# Altium integrated library TerminalBlocksRisingCage_5.08mm.IntLib: 52 symbols
Pins are listed as number, name and electrical type; pins without a type are passive.

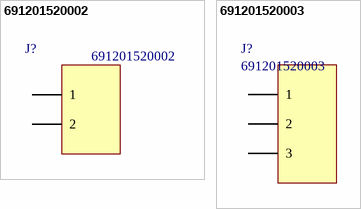
[diagram p0: symbols 691201520002 to 691201520003]

## 691201520002
designator J?
45¡ã Cable Entry with Rising Cage Clamp, Serie 2015 - 5.08 mm; Manufacturer: Wurth Elektronik; ComponentLink1 Description: Manufacturer; ComponentLink2 Description: Datasheet; NoPins: 2; ComponentLink1 URL: http://www.we-online.com; ComponentLink2 URL: http://katalog.we-online.de/em/datasheet/6912015200xx.pdf; Created By: Baojun Chen; Created Date: 6-Aug-15; PartNo: 691201520002; Value: 691201520002
footprint 691201520002 (Serie 2015 - 5.08 mm _ 2 pins)
pins: 1, 2

## 691201520003
designator J?
45¡ã Cable Entry with Rising Cage Clamp, Serie 2015 - 5.08 mm; Manufacturer: Wurth Elektronik; ComponentLink1 Description: Manufacturer; ComponentLink2 Description: Datasheet; NoPins: 3; ComponentLink1 URL: http://www.we-online.com; ComponentLink2 URL: http://katalog.we-online.de/em/datasheet/6912015200xx.pdf; Created By: Baojun Chen; Created Date: 6-Aug-15; PartNo: 691201520003; Value: 691201520003
footprint 691201520003 (Serie 2015 - 5.08 mm _ 3 pins)
pins: 1, 2, 3


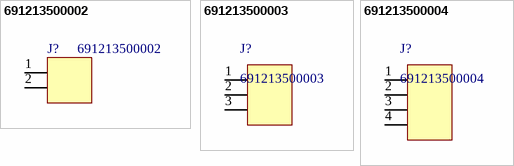
[diagram p1: symbols 691213500002 to 691213500004]

## 691213500002
designator J?
WR-TBL Vertical Cable Entry With Rising Cage Clamp,Serie 2135 - 5.08 mm; Manufacturer: Wurth Elektronik; ComponentLink1 Description: Manufacturer; ComponentLink2 Description: Datasheet; ComponentLink1URL: http://www.we-online.de; ComponentLink2URL: http://katalog.we-online.de/em/datasheet/6912135000XX.pdf; Created by: Baojun Chen; Created Date: 8.Sep.2015; partNo: 691213500002; Value: 691213500002
footprint 691213500002 (Serie 2135 - 5.08 mm _ 2 pins)
pins: 1, 2

## 691213500003
designator J?
WR-TBL Vertical Cable Entry With Rising Cage Clamp,Serie 2135 - 5.08 mm; Manufacturer: Wurth Elektronik; ComponentLink1 Description: Manufacturer; ComponentLink2 Description: Datasheet; ComponentLink1URL: http://www.we-online.de; ComponentLink2URL: http://katalog.we-online.de/em/datasheet/6912135000XX.pdf; Created by: Baojun Chen; Created Date: 8.Sep.2015; partNo: 691213500003; Value: 691213500003
footprint 691213500003 (Serie 2135 - 5.08 mm_ 3 pins)
pins: 1, 2, 3

## 691213500004
designator J?
WR-TBL Vertical Cable Entry With Rising Cage Clamp,Serie 2135 - 5.08 mm; Manufacturer: Wurth Elektronik; ComponentLink1 Description: Manufacturer; ComponentLink2 Description: Datasheet; ComponentLink1URL: http://www.we-online.de; ComponentLink2URL: http://katalog.we-online.de/em/datasheet/6912135000XX.pdf; Created by: Baojun Chen; Created Date: 8.Sep.2015; partNo: 691213500004; Value: 691213500004
footprint 691213500004 (Serie 2135 - 5.08 mm_ 4 pins)
pins: 1, 2, 3, 4


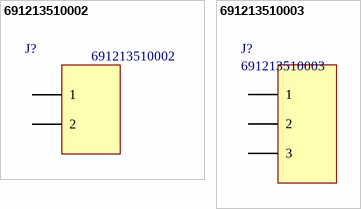
[diagram p2: symbols 691213510002 to 691213510003]

## 691213510002
designator J?
Horizontal Cable Entry with Rising Cage Clamp, Serie 2135 - 5.08 mm; Manufacturer: Wurth Elektronik; ComponentLink1 Description: Manufacturer; ComponentLink2 Description: Datasheet; NoPins: 2; ComponentLink1 URL: http://www.we-online.com; ComponentLink2 URL: http://katalog.we-online.de/em/datasheet/6912135100xx.pdf; Created By: Baojun Chen; Created Date: 6-Aug-15; PartNo: 691213510002; Value: 691213510002
footprint 691213510002 (Serie 2135 - 5.08 mm _ 2 pins)
pins: 1, 2

## 691213510003
designator J?
Horizontal Cable Entry with Rising Cage Clamp, Serie 2135 - 5.08 mm; Manufacturer: Wurth Elektronik; ComponentLink1 Description: Manufacturer; ComponentLink2 Description: Datasheet; NoPins: 3; ComponentLink1 URL: http://www.we-online.com; ComponentLink2 URL: http://katalog.we-online.de/em/datasheet/6912135100xx.pdf; Created By: Baojun Chen; Created Date: 6-Aug-15; PartNo: 691213510003; Value: 691213510003
footprint 691213510003 (Serie 2135 - 5.08 mm _ 3 pins)
pins: 1, 2, 3


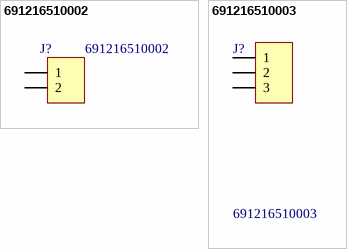
[diagram p3: symbols 691216510002 to 691216510003]

## 691216510002
designator J?
WR-TBL Horizontal Entry Modular with Rising Cage Clamp,Serie 2165 - 5.08 mm; Manufacturer: Würth Elektronik eiSos GmbH; ComponentLink1 Description: Manufacturer; ComponentLink2 Description: Datasheet; NoPins: 2; Created Date: 27 Novenber 2013; partNo: 691216510002; ComponentLink1URL: http://www.we-online.com; ComponentLink2URL: http://katalog.we-online.de/em/datasheet/6912165100xx.pdf; Created by: Karrer Zheng; Value: 691216510002
footprint 691216510002 (5,08mm - Modular - Horizontal wire entry - Rising cage clamp - 02p)
pins: 1, 2

## 691216510003
designator J?
WR-TBL Horizontal Entry Modular with Rising Cage Clamp,Serie 2165 - 5.08 mm; Manufacturer: Würth Elektronik eiSos GmbH; ComponentLink1 Description: Manufacturer; ComponentLink2 Description: Datasheet; NoPins: 3; Created Date: 27 Novenber 2013; partNo: 691216510003; ComponentLink1URL: http://www.we-online.com; ComponentLink2URL: http://katalog.we-online.de/em/datasheet/6912165100xx.pdf; Created by: Karrer Zheng; Value: 691216510003
footprint 691216510003 (5,08mm - Modular - Horizontal wire entry - Rising cage clamp - 03p)
pins: 1, 2, 3


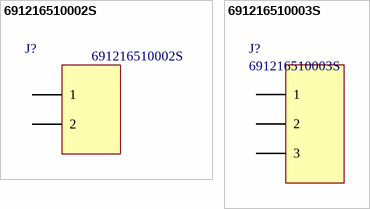
[diagram p4: symbols 691216510002S to 691216510003S]

## 691216510002S
designator J?
Horizontal Cable Entry with Rising Cage Clamp, Serie 2165S - 5.08 mm; Manufacturer: Wurth Elektronik; ComponentLink1 Description: Manufacturer; ComponentLink2 Description: Datasheet; NoPins: 2; ComponentLink1 URL: http://www.we-online.com; ComponentLink2 URL: http://katalog.we-online.de/em/datasheet/6912165100xxS.pdf; Created By: Baojun Chen; Created Date: 6-Aug-15; PartNo: 691216510002S; Value: 691216510002S
footprint 691216510002S (Serie 2165S - 5.08 mm _ 2 pins)
pins: 1, 2

## 691216510003S
designator J?
Horizontal Cable Entry with Rising Cage Clamp, Serie 2165S - 5.08 mm; Manufacturer: Wurth Elektronik; ComponentLink1 Description: Manufacturer; ComponentLink2 Description: Datasheet; NoPins: 3; ComponentLink1 URL: http://www.we-online.com; ComponentLink2 URL: http://katalog.we-online.de/em/datasheet/6912165100xxS.pdf; Created By: Baojun Chen; Created Date: 6-Aug-15; PartNo: 691216510003S; Value: 691216510003S
footprint 691216510003S (Serie 2165S - 5.08 mm _ 3 pins)
pins: 1, 2, 3


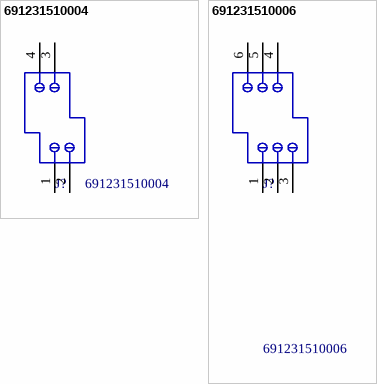
[diagram p5: symbols 691231510004 to 691231510006]

## 691231510004
designator J?
WR-TBL Double Level Horizontal Entry Modular with Rising Cage,Serie 2315 - 5.08 mm; Manufacturer: Würth Elektronik eiSos GmbH; ComponentLink1 Description: Manufacturer; ComponentLink2 Description: Datasheet; NoPins: 4; Created Date: 27 Novenber 2013; partNo: 691231510004; ComponentLink1URL: http://www.we-online.com; ComponentLink2URL: http://katalog.we-online.de/em/datasheet/6912315100xx.pdf; Created by: Karrer Zheng; Value: 691231510004
footprint 691231510004 (5,08mm - modular - 2 rows - Right - horizontal entry with rising cage clamp - 04p - h=19,1mm)
pins: 1, 2, 3, 4

## 691231510006
designator J?
WR-TBL Double Level Horizontal Entry Modular with Rising Cage,Serie 2315 - 5.08 mm; Manufacturer: Würth Elektronik eiSos GmbH; ComponentLink1 Description: Manufacturer; ComponentLink2 Description: Datasheet; NoPins: 6; Created Date: 27 Novenber 2013; partNo: 691231510006; ComponentLink1URL: http://www.we-online.com; ComponentLink2URL: http://katalog.we-online.de/em/datasheet/6912315100xx.pdf; Created by: Karrer Zheng; Value: 691231510006
footprint 691231510006 (5,08mm - modular - 2 rows - Right - horizontal entry with rising cage clamp - 06p - h=19,1mm)
pins: 1, 2, 3, 4, 5, 6


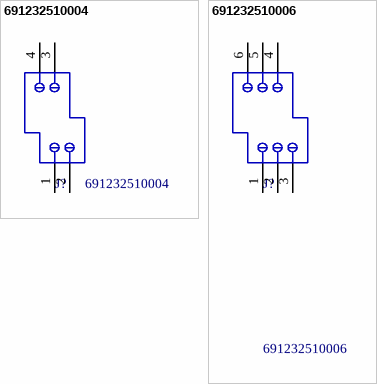
[diagram p6: symbols 691232510004 to 691232510006]

## 691232510004
designator J?
WR-TBL Double Level Horizontal Entry Modular with Rising Clamp,Serie 2325 - 5.08 mm; Manufacturer: Würth Elektronik eiSos GmbH; ComponentLink1 Description: Manufacturer; ComponentLink2 Description: Datasheet; NoPins: 4; Created Date: 28 Novenber 2013; partNo: 691232510004; ComponentLink1URL: http://www.we-online.com; ComponentLink2URL: http://katalog.we-online.de/em/datasheet/6912325100xx.pdf; Created by: Karrer Zheng; Value: 691232510004
footprint 691232510004 (5,08mm - modular - 2 rows - Right - horizontal entry with rising cage clamp - 04p - h=25,3mm)
pins: 1, 2, 3, 4

## 691232510006
designator J?
WR-TBL Double Level Horizontal Entry Modular with Rising Clamp,Serie 2325 - 5.08 mm; Manufacturer: Würth Elektronik eiSos GmbH; ComponentLink1 Description: Manufacturer; ComponentLink2 Description: Datasheet; NoPins: 6; Created Date: 28 Novenber 2013; partNo: 691232510006; ComponentLink1URL: http://www.we-online.com; ComponentLink2URL: http://katalog.we-online.de/em/datasheet/6912325100xx.pdf; Created by: Karrer Zheng; Value: 691232510006
footprint 691232510006 (5,08mm - modular - 2 rows - Right - horizontal entry with rising cage clamp - 06p - h=25,3mm)
pins: 1, 2, 3, 4, 5, 6


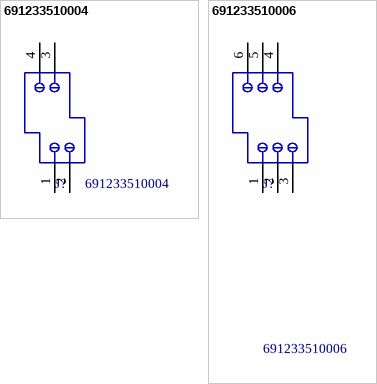
[diagram p7: symbols 691233510004 to 691233510006]

## 691233510004
designator J?
WR-TBL Double Level Horizontal Entry Modular with Rising Clamp,Serie 2335 - 5.08 mm; Manufacturer: Würth Elektronik eiSos GmbH; ComponentLink1 Description: Manufacturer; ComponentLink2 Description: Datasheet; NoPins: 4; Created Date: 28 Novenber 2013; partNo: 691233510004; ComponentLink1URL: http://www.we-online.com; ComponentLink2URL: http://katalog.we-online.de/em/datasheet/6912335100xx.pdf; Created by: Karrer Zheng; Value: 691233510004
footprint 691233510004 (5,08mm - modular - 2 rows - Right - horizontal entry with rising cage clamp - 04p - h=31,5mm)
pins: 1, 2, 3, 4

## 691233510006
designator J?
WR-TBL Double Level Horizontal Entry Modular with Rising Clamp,Serie 2335 - 5.08 mm; Manufacturer: Würth Elektronik eiSos GmbH; ComponentLink1 Description: Manufacturer; ComponentLink2 Description: Datasheet; NoPins: 6; Created Date: 28 Novenber 2013; partNo: 691233510006; ComponentLink1URL: http://www.we-online.com; ComponentLink2URL: http://katalog.we-online.de/em/datasheet/6912335100xx.pdf; Created by: Karrer Zheng; Value: 691233510006
footprint 691233510006 (5,08mm - modular - 2 rows - Right - horizontal entry with rising cage clamp - 06p - h=31,5mm)
pins: 1, 2, 3, 4, 5, 6


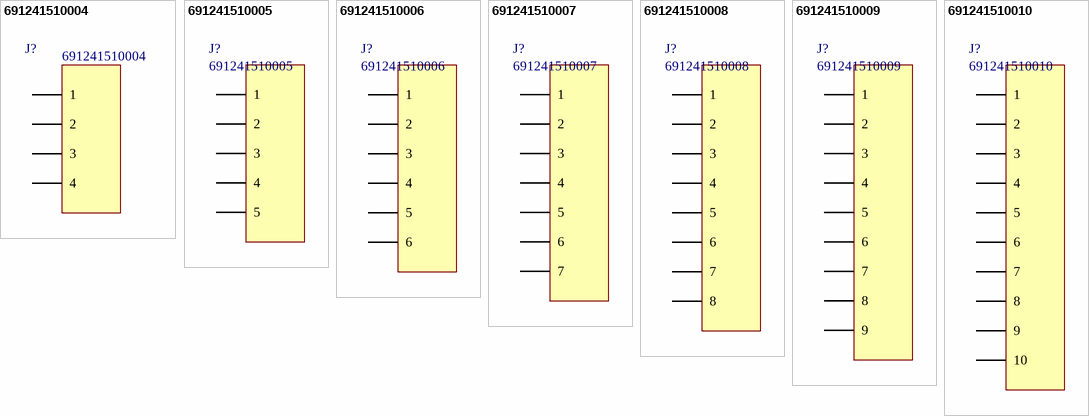
[diagram p8: symbols 691241510004 to 691241510010]

## 691241510004
designator J?
Horizontal Cable Entry with Rising Cage Clamp, Serie 2415 - 5.08 mm; Manufacturer: Wurth Elektronik; ComponentLink1 Description: Manufacturer; ComponentLink2 Description: Datasheet; NoPins: 4; ComponentLink1 URL: http://www.we-online.com; ComponentLink2 URL: http://katalog.we-online.de/em/datasheet/6912415100xx.pdf; Created By: Baojun Chen; Created Date: 6-Aug-15; PartNo: 691241510004; Value: 691241510004
footprint 691241510004 (Serie 2415 - 5.08 mm _ 4 pins)
pins: 1, 2, 3, 4

## 691241510005
designator J?
Horizontal Cable Entry with Rising Cage Clamp, Serie 2415 - 5.08 mm; Manufacturer: Wurth Elektronik; ComponentLink1 Description: Manufacturer; ComponentLink2 Description: Datasheet; NoPins: 5; ComponentLink1 URL: http://www.we-online.com; ComponentLink2 URL: http://katalog.we-online.de/em/datasheet/6912415100xx.pdf; Created By: Baojun Chen; Created Date: 6-Aug-15; PartNo: 691241510005; Value: 691241510005
footprint 691241510005 (Serie 2415 - 5.08 mm _ 5 pins)
pins: 1, 2, 3, 4, 5

## 691241510006
designator J?
Horizontal Cable Entry with Rising Cage Clamp, Serie 2415 - 5.08 mm; Manufacturer: Wurth Elektronik; ComponentLink1 Description: Manufacturer; ComponentLink2 Description: Datasheet; NoPins: 6; ComponentLink1 URL: http://www.we-online.com; ComponentLink2 URL: http://katalog.we-online.de/em/datasheet/6912415100xx.pdf; Created By: Baojun Chen; Created Date: 6-Aug-15; PartNo: 691241510006; Value: 691241510006
footprint 691241510006 (Serie 2415 - 5.08 mm _ 6 pins)
pins: 1, 2, 3, 4, 5, 6

## 691241510007
designator J?
Horizontal Cable Entry with Rising Cage Clamp, Serie 2415 - 5.08 mm; Manufacturer: Wurth Elektronik; ComponentLink1 Description: Manufacturer; ComponentLink2 Description: Datasheet; NoPins: 7; ComponentLink1 URL: http://www.we-online.com; ComponentLink2 URL: http://katalog.we-online.de/em/datasheet/6912415100xx.pdf; Created By: Baojun Chen; Created Date: 6-Aug-15; PartNo: 691241510007; Value: 691241510007
footprint 691241510007 (Serie 2415 - 5.08 mm _ 7 pins)
pins: 1, 2, 3, 4, 5, 6, 7

## 691241510008
designator J?
Horizontal Cable Entry with Rising Cage Clamp, Serie 2415 - 5.08 mm; Manufacturer: Wurth Elektronik; ComponentLink1 Description: Manufacturer; ComponentLink2 Description: Datasheet; NoPins: 8; ComponentLink1 URL: http://www.we-online.com; ComponentLink2 URL: http://katalog.we-online.de/em/datasheet/6912415100xx.pdf; Created By: Baojun Chen; Created Date: 6-Aug-15; PartNo: 691241510008; Value: 691241510008
footprint 691241510008 (Serie 2415 - 5.08 mm _ 8 pins)
pins: 1, 2, 3, 4, 5, 6, 7, 8

## 691241510009
designator J?
Horizontal Cable Entry with Rising Cage Clamp, Serie 2415 - 5.08 mm; Manufacturer: Wurth Elektronik; ComponentLink1 Description: Manufacturer; ComponentLink2 Description: Datasheet; NoPins: 9; ComponentLink1 URL: http://www.we-online.com; ComponentLink2 URL: http://katalog.we-online.de/em/datasheet/6912415100xx.pdf; Created By: Baojun Chen; Created Date: 6-Aug-15; PartNo: 691241510009; Value: 691241510009
footprint 691241510009 (Serie 2415 - 5.08 mm _ 9 pins)
pins: 1, 2, 3, 4, 5, 6, 7, 8, 9

## 691241510010
designator J?
Horizontal Cable Entry with Rising Cage Clamp, Serie 2415 - 5.08 mm; Manufacturer: Wurth Elektronik; ComponentLink1 Description: Manufacturer; ComponentLink2 Description: Datasheet; NoPins: 10; ComponentLink1 URL: http://www.we-online.com; ComponentLink2 URL: http://katalog.we-online.de/em/datasheet/6912415100xx.pdf; Created By: Baojun Chen; Created Date: 6-Aug-15; PartNo: 691241510010; Value: 691241510010
footprint 691241510010 (Serie 2415 - 5.08 mm _ 10 pins)
pins: 1, 2, 3, 4, 5, 6, 7, 8, 9, 10


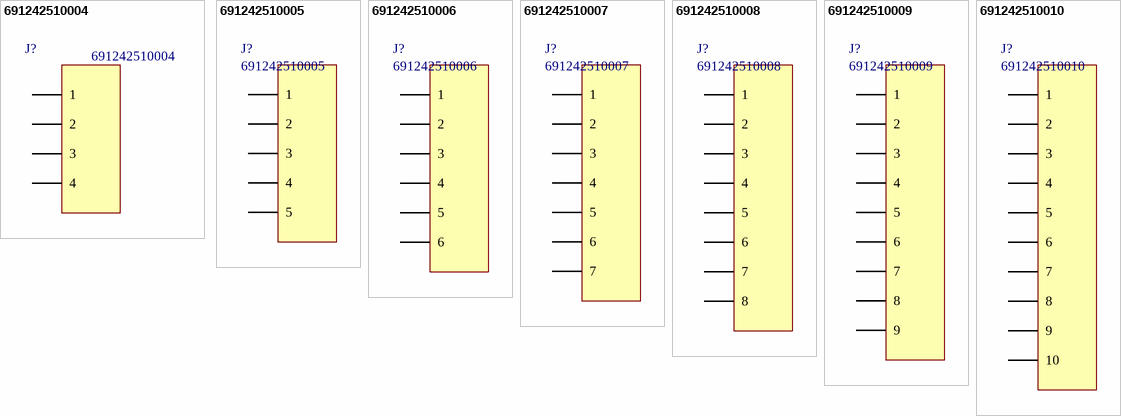
[diagram p9: symbols 691242510004 to 691242510010]

## 691242510004
designator J?
Horizontal Cable Entry with Rising Cage Clamp, Serie 2425 - 5.08 mm; Manufacturer: Wurth Elektronik; ComponentLink1 Description: Manufacturer; ComponentLink2 Description: Datasheet; NoPins: 4; ComponentLink1 URL: http://www.we-online.com; ComponentLink2 URL: http://katalog.we-online.de/em/datasheet/6912425100xx.pdf; Created By: Baojun Chen; Created Date: 6-Aug-15; PartNo: 691242510004; Value: 691242510004
footprint 691242510004 (Serie 2425 - 5.08 mm _ 4 pins)
pins: 1, 2, 3, 4

## 691242510005
designator J?
Horizontal Cable Entry with Rising Cage Clamp, Serie 2425 - 5.08 mm; Manufacturer: Wurth Elektronik; ComponentLink1 Description: Manufacturer; ComponentLink2 Description: Datasheet; NoPins: 5; ComponentLink1 URL: http://www.we-online.com; ComponentLink2 URL: http://katalog.we-online.de/em/datasheet/6912425100xx.pdf; Created By: Baojun Chen; Created Date: 6-Aug-15; PartNo: 691242510005; Value: 691242510005
footprint 691242510005 (Serie 2425 - 5.08 mm _ 5 pins)
pins: 1, 2, 3, 4, 5

## 691242510006
designator J?
Horizontal Cable Entry with Rising Cage Clamp, Serie 2425 - 5.08 mm; Manufacturer: Wurth Elektronik; ComponentLink1 Description: Manufacturer; ComponentLink2 Description: Datasheet; NoPins: 6; ComponentLink1 URL: http://www.we-online.com; ComponentLink2 URL: http://katalog.we-online.de/em/datasheet/6912425100xx.pdf; Created By: Baojun Chen; Created Date: 6-Aug-15; PartNo: 691242510006; Value: 691242510006
footprint 691242510006 (Serie 2425 - 5.08 mm _ 6 pins)
pins: 1, 2, 3, 4, 5, 6

## 691242510007
designator J?
Horizontal Cable Entry with Rising Cage Clamp, Serie 2425 - 5.08 mm; Manufacturer: Wurth Elektronik; ComponentLink1 Description: Manufacturer; ComponentLink2 Description: Datasheet; NoPins: 7; ComponentLink1 URL: http://www.we-online.com; ComponentLink2 URL: http://katalog.we-online.de/em/datasheet/6912425100xx.pdf; Created By: Baojun Chen; Created Date: 6-Aug-15; PartNo: 691242510007; Value: 691242510007
footprint 691242510007 (Serie 2425 - 5.08 mm _ 7 pins)
pins: 1, 2, 3, 4, 5, 6, 7

## 691242510008
designator J?
Horizontal Cable Entry with Rising Cage Clamp, Serie 2425 - 5.08 mm; Manufacturer: Wurth Elektronik; ComponentLink1 Description: Manufacturer; ComponentLink2 Description: Datasheet; NoPins: 8; ComponentLink1 URL: http://www.we-online.com; ComponentLink2 URL: http://katalog.we-online.de/em/datasheet/6912425100xx.pdf; Created By: Baojun Chen; Created Date: 6-Aug-15; PartNo: 691242510008; Value: 691242510008
footprint 691242510008 (Serie 2425 - 5.08 mm _ 8 pins)
pins: 1, 2, 3, 4, 5, 6, 7, 8

## 691242510009
designator J?
Horizontal Cable Entry with Rising Cage Clamp, Serie 2425 - 5.08 mm; Manufacturer: Wurth Elektronik; ComponentLink1 Description: Manufacturer; ComponentLink2 Description: Datasheet; NoPins: 9; ComponentLink1 URL: http://www.we-online.com; ComponentLink2 URL: http://katalog.we-online.de/em/datasheet/6912425100xx.pdf; Created By: Baojun Chen; Created Date: 6-Aug-15; PartNo: 691242510009; Value: 691242510009
footprint 691242510009 (Serie 2425 - 5.08 mm _ 9 pins)
pins: 1, 2, 3, 4, 5, 6, 7, 8, 9

## 691242510010
designator J?
Horizontal Cable Entry with Rising Cage Clamp, Serie 2425 - 5.08 mm; Manufacturer: Wurth Elektronik; ComponentLink1 Description: Manufacturer; ComponentLink2 Description: Datasheet; NoPins: 10; ComponentLink1 URL: http://www.we-online.com; ComponentLink2 URL: http://katalog.we-online.de/em/datasheet/6912425100xx.pdf; Created By: Baojun Chen; Created Date: 6-Aug-15; PartNo: 691242510010; Value: 691242510010
footprint 691242510010 (Serie 2425 - 5.08 mm _ 10 pins)
pins: 1, 2, 3, 4, 5, 6, 7, 8, 9, 10


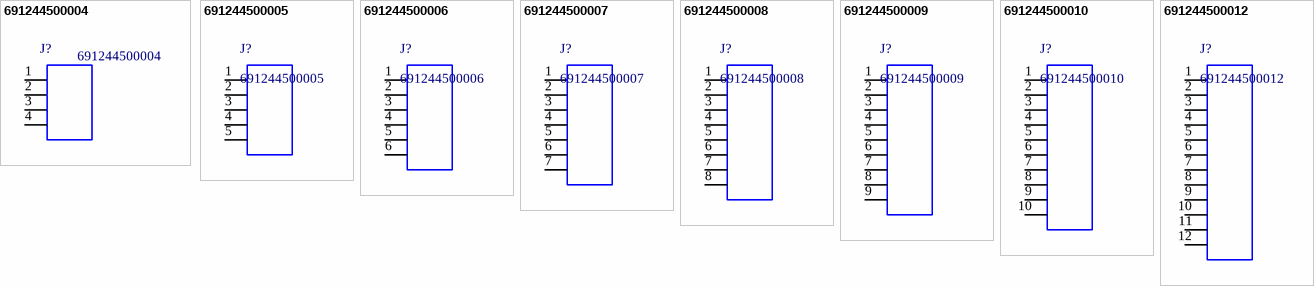
[diagram p10: symbols 691244500004 to 691244500012]

## 691244500004
designator J?
WR-TBL Vertical Cable Entry With Rising Cage Clamp,Serie 2445 - 5.08 mm; Manufacturer: Wurth Elektronik; ComponentLink1 Description: Manufacturer; ComponentLink2 Description: Datasheet; ComponentLink1URL: http://www.we-online.de; ComponentLink2URL: http://katalog.we-online.de/em/datasheet/6912445000XX.pdf; Created by: Baojun Chen; Created Date: 12.Sep.2015; partNo: 691244500004; Value: 691244500004
footprint 691244500004 (Serie 2445 - 5.08 mm _ 4 pins)
pins: 1, 2, 3, 4

## 691244500005
designator J?
WR-TBL Vertical Cable Entry With Rising Cage Clamp,Serie 2445 - 5.08 mm; Manufacturer: Wurth Elektronik; ComponentLink1 Description: Manufacturer; ComponentLink2 Description: Datasheet; ComponentLink1URL: http://www.we-online.de; ComponentLink2URL: http://katalog.we-online.de/em/datasheet/6912445000XX.pdf; Created by: Baojun Chen; Created Date: 12.Sep.2015; partNo: 691244500005; Value: 691244500005
footprint 691244500005 (Serie 2445 - 5.08 mm _ 5 pins)
pins: 1, 2, 3, 4, 5

## 691244500006
designator J?
WR-TBL Vertical Cable Entry With Rising Cage Clamp,Serie 2445 - 5.08 mm; Manufacturer: Wurth Elektronik; ComponentLink1 Description: Manufacturer; ComponentLink2 Description: Datasheet; ComponentLink1URL: http://www.we-online.de; ComponentLink2URL: http://katalog.we-online.de/em/datasheet/6912445000XX.pdf; Created by: Baojun Chen; Created Date: 12.Sep.2015; partNo: 691244500006; Value: 691244500006
footprint 691244500006 (Serie 2445 - 5.08 mm _ 6 pins)
pins: 1, 2, 3, 4, 5, 6

## 691244500007
designator J?
WR-TBL Vertical Cable Entry With Rising Cage Clamp,Serie 2445 - 5.08 mm; Manufacturer: Wurth Elektronik; ComponentLink1 Description: Manufacturer; ComponentLink2 Description: Datasheet; ComponentLink1URL: http://www.we-online.de; ComponentLink2URL: http://katalog.we-online.de/em/datasheet/6912445000XX.pdf; Created by: Baojun Chen; Created Date: 12.Sep.2015; partNo: 691244500007; Value: 691244500007
footprint 691244500007 (Serie 2445 - 5.08 mm _ 7 pins)
pins: 1, 2, 3, 4, 5, 6, 7

## 691244500008
designator J?
WR-TBL Vertical Cable Entry With Rising Cage Clamp,Serie 2445 - 5.08 mm; Manufacturer: Wurth Elektronik; ComponentLink1 Description: Manufacturer; ComponentLink2 Description: Datasheet; ComponentLink1URL: http://www.we-online.de; ComponentLink2URL: http://katalog.we-online.de/em/datasheet/6912445000XX.pdf; Created by: Baojun Chen; Created Date: 12.Sep.2015; partNo: 691244500008; Value: 691244500008
footprint 691244500008 (Serie 2445 - 5.08 mm _ 8 pins)
pins: 1, 2, 3, 4, 5, 6, 7, 8

## 691244500009
designator J?
WR-TBL Vertical Cable Entry With Rising Cage Clamp,Serie 2445 - 5.08 mm; Manufacturer: Wurth Elektronik; ComponentLink1 Description: Manufacturer; ComponentLink2 Description: Datasheet; ComponentLink1URL: http://www.we-online.de; ComponentLink2URL: http://katalog.we-online.de/em/datasheet/6912445000XX.pdf; Created by: Baojun Chen; Created Date: 12.Sep.2015; partNo: 691244500009; Value: 691244500009
footprint 691244500009 (Serie 2445 - 5.08 mm _ 9 pins)
pins: 1, 2, 3, 4, 5, 6, 7, 8, 9

## 691244500010
designator J?
WR-TBL Vertical Cable Entry With Rising Cage Clamp,Serie 2445 - 5.08 mm; Manufacturer: Wurth Elektronik; ComponentLink1 Description: Manufacturer; ComponentLink2 Description: Datasheet; ComponentLink1URL: http://www.we-online.de; ComponentLink2URL: http://katalog.we-online.de/em/datasheet/6912445000XX.pdf; Created by: Baojun Chen; Created Date: 12.Sep.2015; partNo: 691244500010; Value: 691244500010
footprint 691244500010 (Serie 2445 - 5.08 mm _ 10 pins)
pins: 1, 2, 3, 4, 5, 6, 7, 8, 9, 10

## 691244500012
designator J?
WR-TBL Vertical Cable Entry With Rising Cage Clamp,Serie 2445 - 5.08 mm; Manufacturer: Wurth Elektronik; ComponentLink1 Description: Manufacturer; ComponentLink2 Description: Datasheet; ComponentLink1URL: http://www.we-online.de; ComponentLink2URL: http://katalog.we-online.de/em/datasheet/6912445000XX.pdf; Created by: Baojun Chen; Created Date: 12.Sep.2015; partNo: 691244500012; Value: 691244500012
footprint 691244500012 (Serie 2445 - 5.08 mm _ 12 pins)
pins: 1, 2, 3, 4, 5, 6, 7, 8, 9, 10, 11, 12


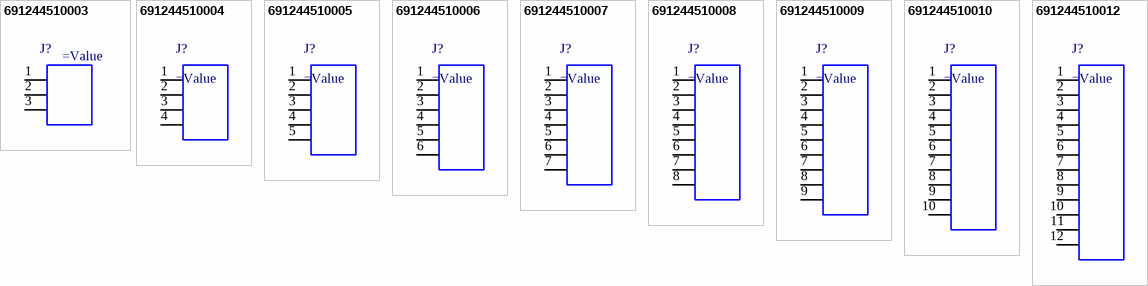
[diagram p11: symbols 691244510003 to 691244510012]

## 691244510003
designator J?
WR-TBL Horizontal Cable Entry With Rising Cage Clamp,Serie 2445 - 5.08 mm; Manufacturer: Wurth Elektronik; partNo: 691244510003; ComponentLink1 Description: Manufacturer; ComponentLink2 Description: Datasheet; ComponentLink1URL: http://www.we-online.de; ComponentLink2URL: http://katalog.we-online.de/em/datasheet/6912445100XX.pdf; Created by: Baojun Chen; Created Date: 15.Sep.2015; =Value: 691244510003
footprint 691244510003 (Serie 2445 - 5.08 mm _ 3 pins)
pins: 1, 2, 3

## 691244510004
designator J?
WR-TBL Horizontal Cable Entry With Rising Cage Clamp,Serie 2445 - 5.08 mm; Manufacturer: Wurth Elektronik; partNo: 691244510004; ComponentLink1 Description: Manufacturer; ComponentLink2 Description: Datasheet; ComponentLink1URL: http://www.we-online.de; ComponentLink2URL: http://katalog.we-online.de/em/datasheet/6912445100XX.pdf; Created by: Baojun Chen; Created Date: 15.Sep.2015; =Value: 691244510004
footprint 691244510004 (Serie 2445 - 5.08 mm _ 4 pins)
pins: 1, 2, 3, 4

## 691244510005
designator J?
WR-TBL Horizontal Cable Entry With Rising Cage Clamp,Serie 2445 - 5.08 mm; Manufacturer: Wurth Elektronik; partNo: 691244510005; ComponentLink1 Description: Manufacturer; ComponentLink2 Description: Datasheet; ComponentLink1URL: http://www.we-online.de; ComponentLink2URL: http://katalog.we-online.de/em/datasheet/6912445100XX.pdf; Created by: Baojun Chen; Created Date: 15.Sep.2015; =Value: 691244510005
footprint 691244510005 (Serie 2445 - 5.08 mm _ 5 pins)
pins: 1, 2, 3, 4, 5

## 691244510006
designator J?
WR-TBL Horizontal Cable Entry With Rising Cage Clamp,Serie 2445 - 5.08 mm; Manufacturer: Wurth Elektronik; partNo: 691244510006; ComponentLink1 Description: Manufacturer; ComponentLink2 Description: Datasheet; ComponentLink1URL: http://www.we-online.de; ComponentLink2URL: http://katalog.we-online.de/em/datasheet/6912445100XX.pdf; Created by: Baojun Chen; Created Date: 15.Sep.2015; =Value: 691244510006
footprint 691244510006 (Serie 2445 - 5.08 mm _ 6 pins)
pins: 1, 2, 3, 4, 5, 6

## 691244510007
designator J?
WR-TBL Horizontal Cable Entry With Rising Cage Clamp,Serie 2445 - 5.08 mm; Manufacturer: Wurth Elektronik; partNo: 691244510007; ComponentLink1 Description: Manufacturer; ComponentLink2 Description: Datasheet; ComponentLink1URL: http://www.we-online.de; ComponentLink2URL: http://katalog.we-online.de/em/datasheet/6912445100XX.pdf; Created by: Baojun Chen; Created Date: 15.Sep.2015; =Value: 691244510007
footprint 691244510007 (Serie 2445 - 5.08 mm _ 7 pins)
pins: 1, 2, 3, 4, 5, 6, 7

## 691244510008
designator J?
WR-TBL Horizontal Cable Entry With Rising Cage Clamp,Serie 2445 - 5.08 mm; Manufacturer: Wurth Elektronik; partNo: 691244510008; ComponentLink1 Description: Manufacturer; ComponentLink2 Description: Datasheet; ComponentLink1URL: http://www.we-online.de; ComponentLink2URL: http://katalog.we-online.de/em/datasheet/6912445100XX.pdf; Created by: Baojun Chen; Created Date: 15.Sep.2015; =Value: 691244510008
footprint 691244510008 (Serie 2445 - 5.08 mm _ 8 pins)
pins: 1, 2, 3, 4, 5, 6, 7, 8

## 691244510009
designator J?
WR-TBL Horizontal Cable Entry With Rising Cage Clamp,Serie 2445 - 5.08 mm; Manufacturer: Wurth Elektronik; partNo: 691244510009; ComponentLink1 Description: Manufacturer; ComponentLink2 Description: Datasheet; ComponentLink1URL: http://www.we-online.de; ComponentLink2URL: http://katalog.we-online.de/em/datasheet/6912445100XX.pdf; Created by: Baojun Chen; Created Date: 15.Sep.2015; =Value: 691244510009
footprint 691244510009 (Serie 2445 - 5.08 mm _ 9 pins)
pins: 1, 2, 3, 4, 5, 6, 7, 8, 9

## 691244510010
designator J?
WR-TBL Horizontal Cable Entry With Rising Cage Clamp,Serie 2445 - 5.08 mm; Manufacturer: Wurth Elektronik; partNo: 691244510010; ComponentLink1 Description: Manufacturer; ComponentLink2 Description: Datasheet; ComponentLink1URL: http://www.we-online.de; ComponentLink2URL: http://katalog.we-online.de/em/datasheet/6912445100XX.pdf; Created by: Baojun Chen; Created Date: 15.Sep.2015; =Value: 691244510010
footprint 691244510010 (Serie 2445 - 5.08 mm _ 10 pins)
pins: 1, 2, 3, 4, 5, 6, 7, 8, 9, 10

## 691244510012
designator J?
WR-TBL Horizontal Cable Entry With Rising Cage Clamp,Serie 2445 - 5.08 mm; Manufacturer: Wurth Elektronik; partNo: 691244510012; ComponentLink1 Description: Manufacturer; ComponentLink2 Description: Datasheet; ComponentLink1URL: http://www.we-online.de; ComponentLink2URL: http://katalog.we-online.de/em/datasheet/6912445100XX.pdf; Created by: Baojun Chen; Created Date: 15.Sep.2015; =Value: 691244510012
footprint 691244510012 (Serie 2445 - 5.08 mm _ 12 pins)
pins: 1, 2, 3, 4, 5, 6, 7, 8, 9, 10, 11, 12


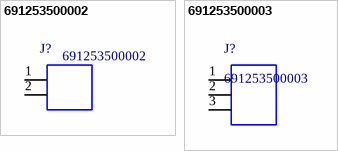
[diagram p12: symbols 691253500002 to 691253500003]

## 691253500002
designator J?
WR-TBL Vertical Cable Entry With Rising Cage Clamp,Serie 2535 - 5.08 mm; Manufacturer: Wurth Elektronik; ComponentLink1 Description: Manufacturer; ComponentLink2 Description: Datasheet; ComponentLink1URL: http://www.we-online.de; ComponentLink2URL: http://katalog.we-online.de/em/datasheet/6912535000XX.pdf; Created by: Baojun Chen; Created Date: 15.Sep.2015; partNo: 691253500002; Value: 691253500002
footprint 691253500002 (Serie 2535 - 5.08 mm _ 2 pins)
pins: 1, 2

## 691253500003
designator J?
WR-TBL Vertical Cable Entry With Rising Cage Clamp,Serie 2535 - 5.08 mm; Manufacturer: Wurth Elektronik; ComponentLink1 Description: Manufacturer; ComponentLink2 Description: Datasheet; ComponentLink1URL: http://www.we-online.de; ComponentLink2URL: http://katalog.we-online.de/em/datasheet/6912535000XX.pdf; Created by: Baojun Chen; Created Date: 15.Sep.2015; partNo: 691253500003; Value: 691253500003
footprint 691253500003 (Serie 2535 - 5.08 mm _ 3 pins)
pins: 1, 2, 3


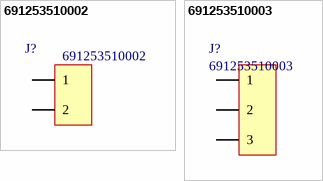
[diagram p13: symbols 691253510002 to 691253510003]

## 691253510002
designator J?
Horizontal Cable Entry with Rising Cage Clamp, Serie 2535 - 5.08mm; Manufacturer: Wurth Elektronik; ComponentLink1 Description: Manufacturer; ComponentLink2 Description: Datasheet; NoPins: 2; ComponentLink1 URL: http://www.we-online.com; ComponentLink2 URL: http://katalog.we-online.de/em/datasheet/6912535100xx.pdf; Created By: Baojun Chen; Created Date: 27.Aug.2015; PartNo: 691253510002; Value: 691253510002
footprint 691253510002 (Serie 2535 - 5.08 mm _ 2 pins)
pins: 1, 2

## 691253510003
designator J?
Horizontal Cable Entry with Rising Cage Clamp, Serie 2535 - 5.08mm; Manufacturer: Wurth Elektronik; ComponentLink1 Description: Manufacturer; ComponentLink2 Description: Datasheet; NoPins: 3; ComponentLink1 URL: http://www.we-online.com; ComponentLink2 URL: http://katalog.we-online.de/em/datasheet/6912535100xx.pdf; Created By: Baojun Chen; Created Date: 27.Aug.2015; PartNo: 691253510003; Value: 691253510003
footprint 691253510003 (Serie 2535 - 5.08 mm _ 3 pins)
pins: 1, 2, 3